# EAGLE library part ML14 (library TABOR K1)
14 pinovy konektor samec
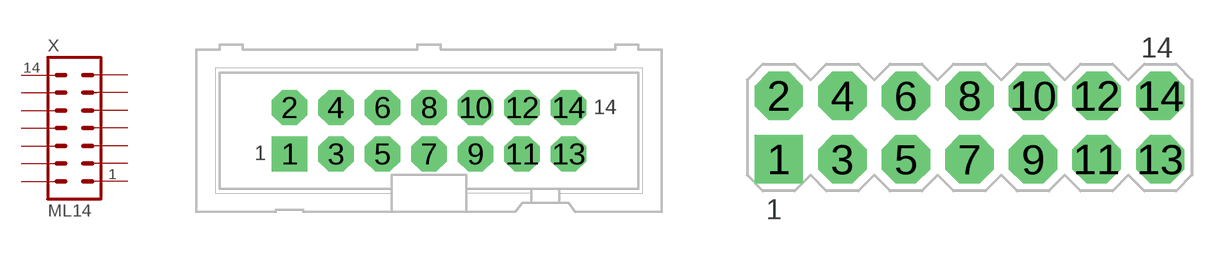
[diagram p37: symbol with the pads of MLW14; footprints MLW14, ML14]

Designator prefix X

## ML14W  [MLW14]
1  1  pas
2  2  pas
3  3  pas
4  4  pas
5  5  pas
6  6  pas
7  7  pas
8  8  pas
9  9  pas
10  10  pas
11  11  pas
12  12  pas
13  13  pas
14  14  pas

## ML14A  [ML14]
Pads as for MLW14

## Footprint MLW14 (pad centres in mm)
14-pinovy konektor HARTING : kolik= 0,6x0,6mm, diera s pokovenim = 0,9mm, vrtanie = 1,1mm
drill 1.092 pad 1.93 square: 1 -7.62,-1.27
drill 1.092 pad 1.93 octagon: 2 -7.62,1.27; 3 -5.08,-1.27; 4 -5.08,1.27; 5 -2.54,-1.27; 6 -2.54,1.27; 7 0,-1.27; 8 0,1.27; 9 2.54,-1.27; 10 2.54,1.27; 11 5.08,-1.27; 12 5.08,1.27; 13 7.62,-1.27; 14 7.62,1.27

## Footprint ML14 (pad centres in mm)
14-pinovy konektor - samec : kolik= 0,6x0,6mm, diera s pokovenim = 0,9mm, vrtanie = 1,1mm
drill 1.092 pad 1.93 square: 1 -7.62,-1.27
drill 1.092 pad 1.93 octagon: 2 -7.62,1.27; 3 -5.08,-1.27; 4 -5.08,1.27; 5 -2.54,-1.27; 6 -2.54,1.27; 7 0,-1.27; 8 0,1.27; 9 2.54,-1.27; 10 2.54,1.27; 11 5.08,-1.27; 12 5.08,1.27; 13 7.62,-1.27; 14 7.62,1.27